# EAGLE library part HEADER_8_WAY (library rc2usb)
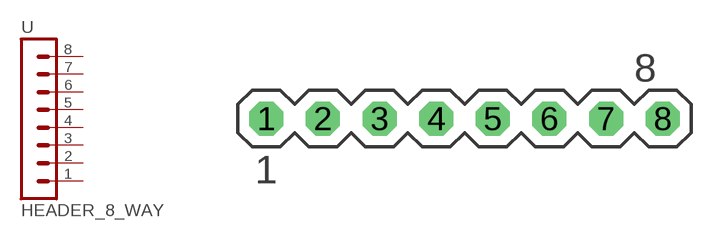
[diagram p0: symbol with the pads of HEADER_8_WAY; footprint HEADER_8_WAY]

Designator prefix -

## HEADER_8_WAY  [HEADER_8_WAY]
1  1  pas
2  2  pas
3  3  pas
4  4  pas
5  5  pas
6  6  pas
7  7  pas
8  8  pas

## Footprint HEADER_8_WAY (pad centres in mm)
drill 1.016 octagon: 1 -8.89,0; 2 -6.35,0; 3 -3.81,0; 4 -1.27,0; 5 1.27,0; 6 3.81,0; 7 6.35,0; 8 8.89,0